# Altium footprint library TO-220F.PcbLib: 1 footprints
Each footprint in its own frame and in the unit in brackets; x right, y up, seen from the top. Pads: shape width x height; smd on the part's side, far side on the other; paste and mask are expansions set on the pad; w line width, h text height; cw(c..) or ccw(c..) is an arc to the next point about the centre after c.
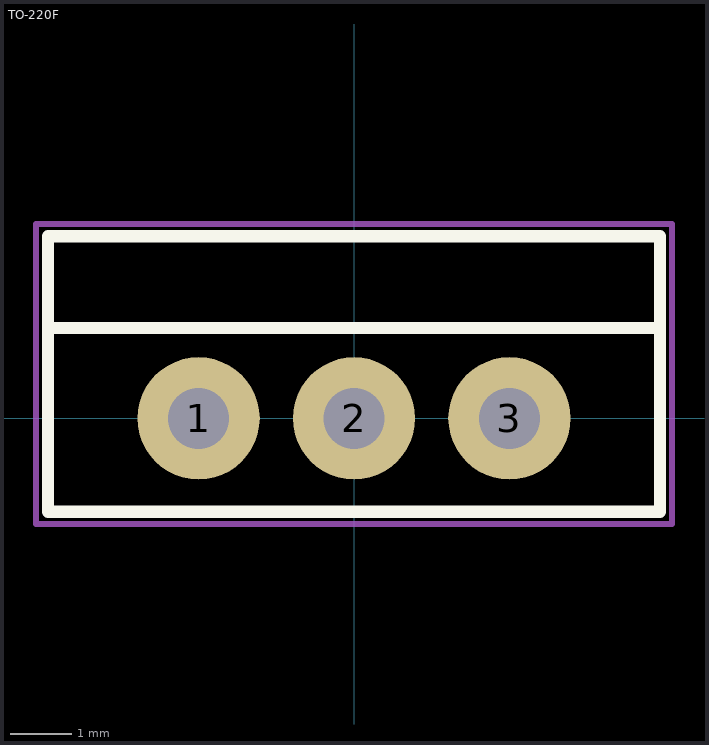
[diagram p0: the footprint, top view; thin cyan lines are the x and y axes]

## TO-220F [mm]
pads (3):
  round 2 hole 1: 1(-2.54,0) 2(0,0) 3(2.54,0)
Top Overlay:
  lines w0.2: -5,1.475 5,1.475 ; -5,-1.525 -5,2.975 5,2.975 5,-1.525 -5,-1.525
Mechanical 15:
  lines w0.1: -5.2,-1.725 -5.2,3.175 5.2,3.175 5.2,-1.725 -5.2,-1.725
3D body "User Library-Transistors TO-220F.step": height 27.87, standoff -1.5, extent -5.07,-1.625 5.07,3.075